# Altium integrated library Linear Technology Power Management Switching Regulator LTC1174-LTC3901.IntLib: 2647 symbols (part 250 of 364)
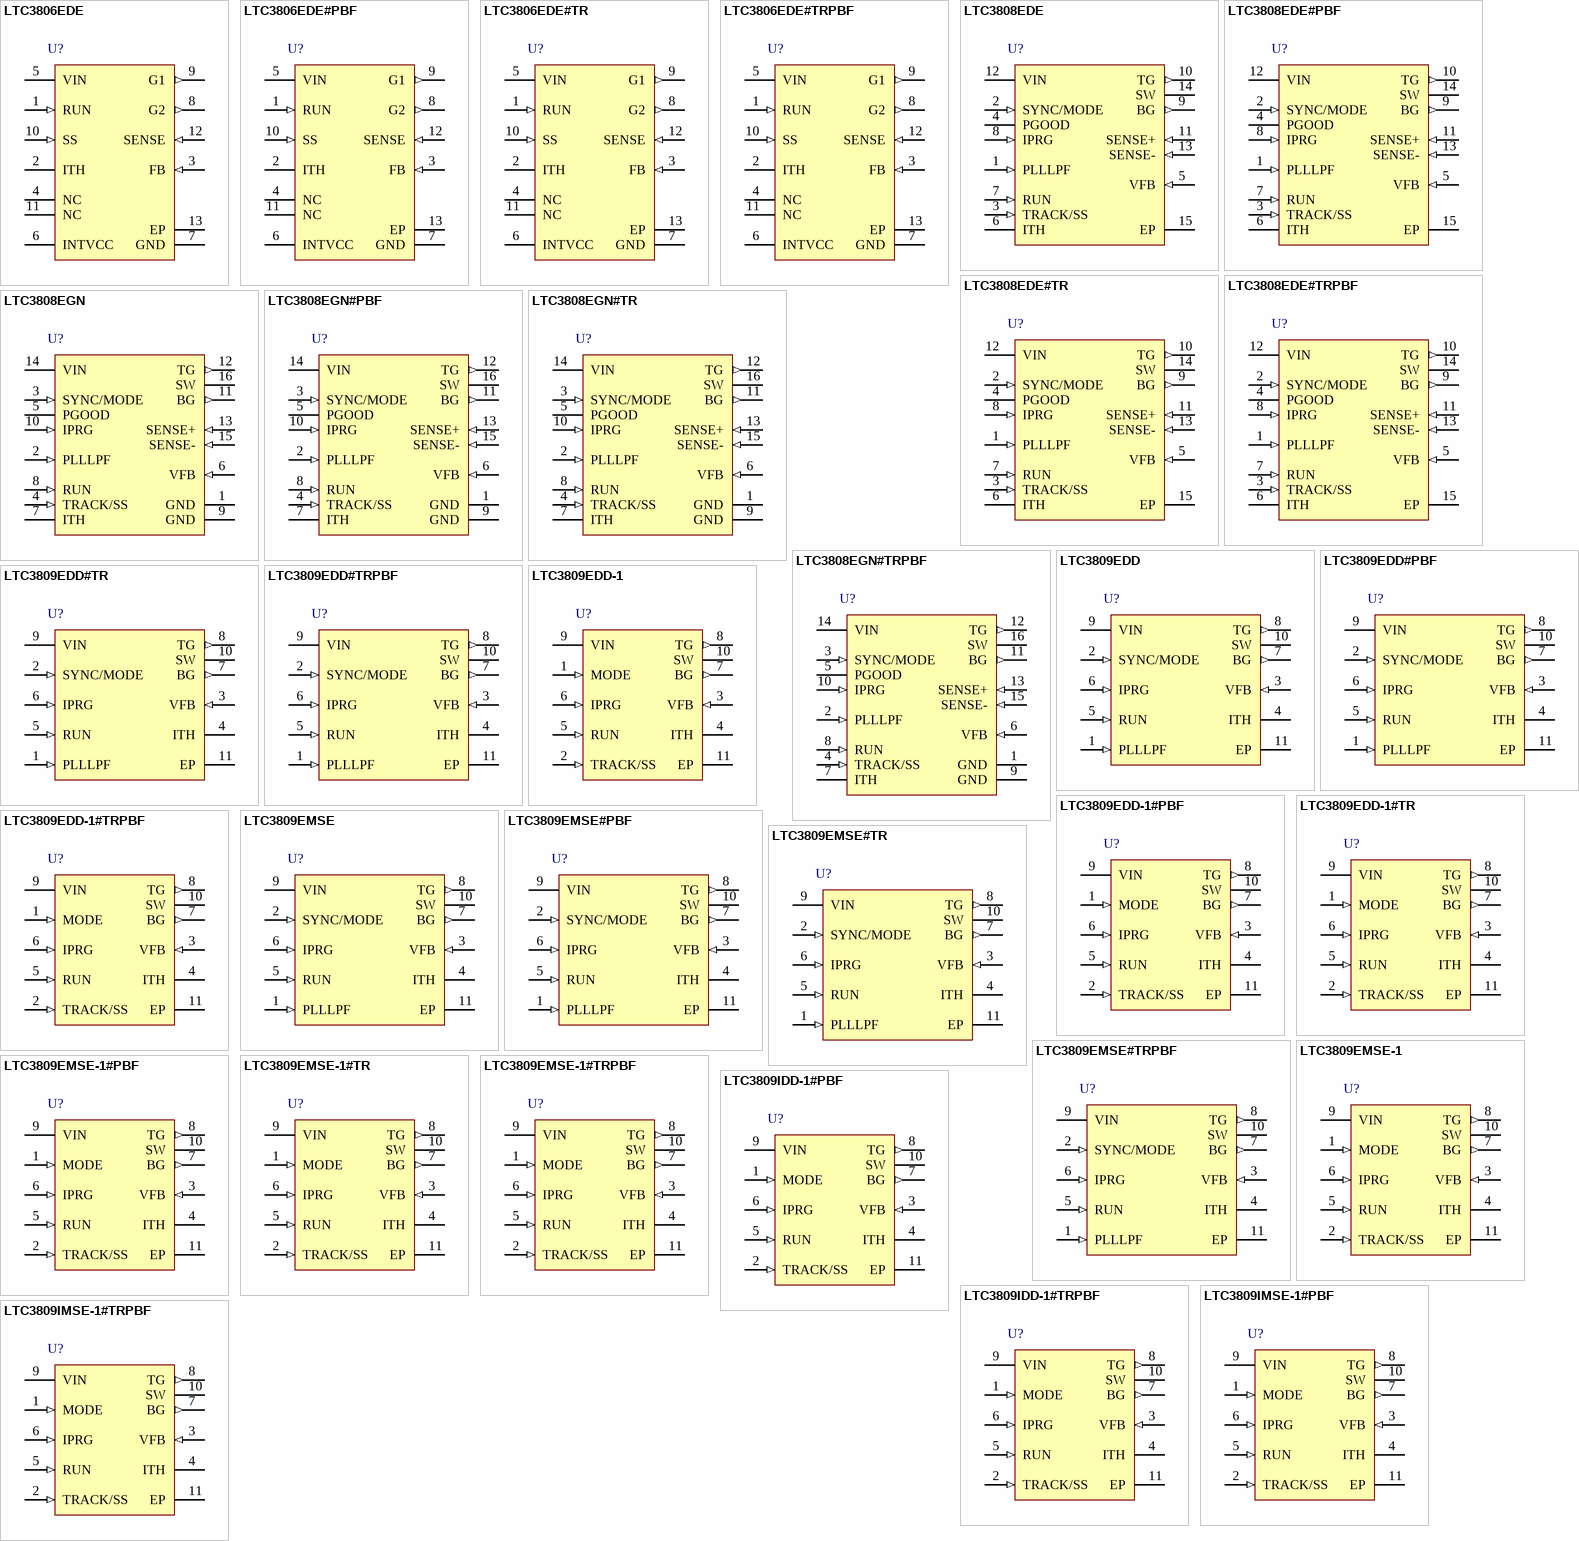
[diagram p244: symbols LTC3806EDE to LTC3809IMSE-1#TRPBF]

## LTC3808EDE#TRPBF
designator U?
No Rsense, Low EMI, Synchronous DC/DC Controller with Output Tracking, 14-pin SON (DE-14), -40 to 85 degC, Pb-Free, Tape and Reel; Manufacturer: Linear Technology; PartNumber: LTC3808EDE#TRPBF; Frequency Sync Range: 250kHz - 750kHz; Number of Outputs: 1; PackageVersion: Rev. B, 06/2010; PackageReference: DE-14; PackageDescription: 14-Pin Plastic DFN, Body 4 x 3 mm, Pitch 0.5 mm; Supplier 1: Digi-Key; Supplier Part Number 1: LTC3808EDE#TRPBF-ND; Packing: Tape and Reel; RoHS: TRUE; Mounting Technology: Surface Mount; Code_JEDEC: MO-229; ComponentLink1Description: Manufacturer URL; ComponentLink1URL: http://www.linear.com/; ComponentLink2Description: Datasheet; ComponentLink2URL: http://cds.linear.com/docs/en/datasheet/3808f.pdf; ComponentLink3Description: Package Specification; ComponentLink3URL: http://www.linear.com/docs/en/packaging/DFN_14_05-08-1708.pdf
footprint LT-DE-14_V (SON, 14-Leads, Body 4x3mm, Pitch 0.5mm, Thermal Pad 3.3x1.7mm)
pins: 1 PLLLPF (in) "Frequency Set/PLL Lowpass Filter. When synchronizing to an external clock, this pin serves as the low pass filter point for the phase-locked loop. Normally, a series RC is connected between this pin and ground.", 2 SYNC/MODE (in) "This pin performs four functions: 1) auxiliary winding feedback input, 2) external clock synchronization input for phase-locked loop, 3) Burst Mode, pulse skipping or forced continuous mode select, and 4) enable spread (See Datasheet)", 3 TRACK/SS (in) "Tracking Input for the Controller or Optional External Soft-Start Input. This pin allows the start-up of VOUT to “track” the external voltage at this pin using an external resistor divider. Tying this pin to VIN all(See Datasheet)", 4 PGOOD (oc) "Power Good Output Voltage Monitor Open-Drain Logic Output. This pin is pulled to ground when the voltage on the feedback pin VFB is not within +/-13.3% of its nominal set point.", 5 VFB (in) "Feedback Pin. This pin receives the remotely sensed feedback voltage for the controller from an external resistor divider across the output.", 6 ITH "Current Threshold and Error Amplifier Compensation Point. Nominal operating range on this pin is from 0.7V to 2V. The voltage on this pin determines the threshold of the main current comparator.", 7 RUN (in) "Run Control Input. Forcing this pin below 1.1V shuts down the chip. Driving this pin to VIN or releasing this pin enables the chip to start-up either by tracking the external voltage at the TRACK/SS pin or with the (See Datasheet)", 8 IPRG (in) "Three-State Pin to Select Maximum Peak Sense Voltage Threshold. This pin selects the maximum allowed voltage drop between the SENSE+ and SENSE- or SW pins (i.e., the maximum allowed drop across the sense resistor or the (See Datasheet)", 9 BG (out) "Bottom (NMOS) Gate Drive Output. This pin drives the gate of the external N-channel MOSFET. This pin has an output swing from GND to SENSE+.", 10 TG (out) "Top (PMOS) Gate Drive Output. This pin drives the gate of the external P-channel MOSFET. This pin has an output swing from GND to SENSE+.", 11 SENSE+ (in) "Positive Input to Differential Current Comparator. Also powers the gate drivers. Normally connected to the source of the external P-channel MOSFET when the sense resistor is not used. Otherwise, it is connected to the sense (See Datasheet)", 12 VIN (power) "Chip Signal Power Supply. This pin powers the entire chip except for the gate drivers. Externally filtering this pin with a lowpass RC network (e.g., R = 10ohm, C = 1uF) is suggested to minimize noise pickup, especially in (See Datasheet)", 13 SENSE- (in) "Negative Input to Differential Current Comparator. Normally is connected to the SW pin when the sense resistor is not used. When using a current sense resistor, connect the resistor between SENSE+ and SENSE- and connect the (See Datasheet)", 14 SW "Switch Node Connection to Inductor. This pin is also an input to the reverse current comparator", 15 EP (power) "The exposed pad (Pin 15 in DFN package) must be soldered to the PCB ground."

## LTC3808EGN
designator U?
No Rsense, Low EMI, Synchronous DC/DC Controller with Output Tracking, 16-pin SOP (GN-16), -40 to 85 degC; Manufacturer: Linear Technology; PartNumber: LTC3808EGN; Frequency Sync Range: 250kHz - 750kHz; Number of Outputs: 1; PackageVersion: Rev. B, 03/2012; PackageReference: GN-16; PackageDescription: 16-Pin Plastic SSOP, Body 4.9 x 3.9 mm, Pitch 0.635 mm; RoHS: FALSE; Mounting Technology: Surface Mount; ComponentLink1Description: Manufacturer URL; ComponentLink1URL: http://www.linear.com/; ComponentLink2Description: Datasheet; ComponentLink2URL: http://cds.linear.com/docs/en/datasheet/3808f.pdf; ComponentLink3Description: Package Specification; ComponentLink3URL: http://cds.linear.com/docs/en/packaging/05081641_B_GN16.pdf
footprint LT-GN-16_N (SOP, 16-Leads, Body 5x4mm, Pitch 0.635mm, IPC Medium Density)
footprint LT-GN-16_L (SOP, 16-Leads, Body 5x4mm, Pitch 0.635mm, IPC High Density)
footprint LT-GN-16_M (SOP, 16-Leads, Body 5x4mm, Pitch 0.635mm, IPC Low Density)
pins: 1 GND (power) "Ground connection for internal circuits, the gate drivers and the negative input to the reverse current comparator.", 2 PLLLPF (in) "Frequency Set/PLL Lowpass Filter. When synchronizing to an external clock, this pin serves as the low pass filter point for the phase-locked loop. Normally, a series RC is connected between this pin and ground.", 3 SYNC/MODE (in) "This pin performs four functions: 1) auxiliary winding feedback input, 2) external clock synchronization input for phase-locked loop, 3) Burst Mode, pulse skipping or forced continuous mode select, and 4) enable spread (See Datasheet)", 4 TRACK/SS (in) "Tracking Input for the Controller or Optional External Soft-Start Input. This pin allows the start-up of VOUT to “track” the external voltage at this pin using an external resistor divider. Tying this pin to VIN all(See Datasheet)", 5 PGOOD (oc) "Power Good Output Voltage Monitor Open-Drain Logic Output. This pin is pulled to ground when the voltage on the feedback pin VFB is not within +/-13.3% of its nominal set point.", 6 VFB (in) "Feedback Pin. This pin receives the remotely sensed feedback voltage for the controller from an external resistor divider across the output.", 7 ITH "Current Threshold and Error Amplifier Compensation Point. Nominal operating range on this pin is from 0.7V to 2V. The voltage on this pin determines the threshold of the main current comparator.", 8 RUN (in) "Run Control Input. Forcing this pin below 1.1V shuts down the chip. Driving this pin to VIN or releasing this pin enables the chip to start-up either by tracking the external voltage at the TRACK/SS pin or with the (See Datasheet)", 9 GND (power) "Ground connection for internal circuits, the gate drivers and the negative input to the reverse current comparator.", 10 IPRG (in) "Three-State Pin to Select Maximum Peak Sense Voltage Threshold. This pin selects the maximum allowed voltage drop between the SENSE+ and SENSE- or SW pins (i.e., the maximum allowed drop across the sense resistor or the (See Datasheet)", 11 BG (out) "Bottom (NMOS) Gate Drive Output. This pin drives the gate of the external N-channel MOSFET. This pin has an output swing from GND to SENSE+.", 12 TG (out) "Top (PMOS) Gate Drive Output. This pin drives the gate of the external P-channel MOSFET. This pin has an output swing from GND to SENSE+.", 13 SENSE+ (in) "Positive Input to Differential Current Comparator. Also powers the gate drivers. Normally connected to the source of the external P-channel MOSFET when the sense resistor is not used. Otherwise, it is connected to the sense (See Datasheet)", 14 VIN (power) "Chip Signal Power Supply. This pin powers the entire chip except for the gate drivers. Externally filtering this pin with a lowpass RC network (e.g., R = 10ohm, C = 1uF) is suggested to minimize noise pickup, especially in (See Datasheet)", 15 SENSE- (in) "Negative Input to Differential Current Comparator. Normally is connected to the SW pin when the sense resistor is not used. When using a current sense resistor, connect the resistor between SENSE+ and SENSE- and connect the (See Datasheet)", 16 SW "Switch Node Connection to Inductor. This pin is also an input to the reverse current comparator"

## LTC3808EGN#PBF
designator U?
No Rsense, Low EMI, Synchronous DC/DC Controller with Output Tracking, 16-pin SOP (GN-16), -40 to 85 degC, Pb-Free; Manufacturer: Linear Technology; PartNumber: LTC3808EGN#PBF; Frequency Sync Range: 250kHz - 750kHz; Number of Outputs: 1; PackageVersion: Rev. B, 03/2012; PackageReference: GN-16; PackageDescription: 16-Pin Plastic SSOP, Body 4.9 x 3.9 mm, Pitch 0.635 mm; Supplier 1: Digi-Key; Supplier Part Number 1: LTC3808EGN#PBF-ND; Supplier 2: Newark; Supplier Part Number 2: 56M8473; RoHS: TRUE; Mounting Technology: Surface Mount; ComponentLink1Description: Manufacturer URL; ComponentLink1URL: http://www.linear.com/; ComponentLink2Description: Datasheet; ComponentLink2URL: http://cds.linear.com/docs/en/datasheet/3808f.pdf; ComponentLink3Description: Package Specification; ComponentLink3URL: http://cds.linear.com/docs/en/packaging/05081641_B_GN16.pdf
footprint LT-GN-16_N (SOP, 16-Leads, Body 5x4mm, Pitch 0.635mm, IPC Medium Density)
footprint LT-GN-16_L (SOP, 16-Leads, Body 5x4mm, Pitch 0.635mm, IPC High Density)
footprint LT-GN-16_M (SOP, 16-Leads, Body 5x4mm, Pitch 0.635mm, IPC Low Density)
pins: 1 GND (power) "Ground connection for internal circuits, the gate drivers and the negative input to the reverse current comparator.", 2 PLLLPF (in) "Frequency Set/PLL Lowpass Filter. When synchronizing to an external clock, this pin serves as the low pass filter point for the phase-locked loop. Normally, a series RC is connected between this pin and ground.", 3 SYNC/MODE (in) "This pin performs four functions: 1) auxiliary winding feedback input, 2) external clock synchronization input for phase-locked loop, 3) Burst Mode, pulse skipping or forced continuous mode select, and 4) enable spread (See Datasheet)", 4 TRACK/SS (in) "Tracking Input for the Controller or Optional External Soft-Start Input. This pin allows the start-up of VOUT to “track” the external voltage at this pin using an external resistor divider. Tying this pin to VIN all(See Datasheet)", 5 PGOOD (oc) "Power Good Output Voltage Monitor Open-Drain Logic Output. This pin is pulled to ground when the voltage on the feedback pin VFB is not within +/-13.3% of its nominal set point.", 6 VFB (in) "Feedback Pin. This pin receives the remotely sensed feedback voltage for the controller from an external resistor divider across the output.", 7 ITH "Current Threshold and Error Amplifier Compensation Point. Nominal operating range on this pin is from 0.7V to 2V. The voltage on this pin determines the threshold of the main current comparator.", 8 RUN (in) "Run Control Input. Forcing this pin below 1.1V shuts down the chip. Driving this pin to VIN or releasing this pin enables the chip to start-up either by tracking the external voltage at the TRACK/SS pin or with the (See Datasheet)", 9 GND (power) "Ground connection for internal circuits, the gate drivers and the negative input to the reverse current comparator.", 10 IPRG (in) "Three-State Pin to Select Maximum Peak Sense Voltage Threshold. This pin selects the maximum allowed voltage drop between the SENSE+ and SENSE- or SW pins (i.e., the maximum allowed drop across the sense resistor or the (See Datasheet)", 11 BG (out) "Bottom (NMOS) Gate Drive Output. This pin drives the gate of the external N-channel MOSFET. This pin has an output swing from GND to SENSE+.", 12 TG (out) "Top (PMOS) Gate Drive Output. This pin drives the gate of the external P-channel MOSFET. This pin has an output swing from GND to SENSE+.", 13 SENSE+ (in) "Positive Input to Differential Current Comparator. Also powers the gate drivers. Normally connected to the source of the external P-channel MOSFET when the sense resistor is not used. Otherwise, it is connected to the sense (See Datasheet)", 14 VIN (power) "Chip Signal Power Supply. This pin powers the entire chip except for the gate drivers. Externally filtering this pin with a lowpass RC network (e.g., R = 10ohm, C = 1uF) is suggested to minimize noise pickup, especially in (See Datasheet)", 15 SENSE- (in) "Negative Input to Differential Current Comparator. Normally is connected to the SW pin when the sense resistor is not used. When using a current sense resistor, connect the resistor between SENSE+ and SENSE- and connect the (See Datasheet)", 16 SW "Switch Node Connection to Inductor. This pin is also an input to the reverse current comparator"

## LTC3808EGN#TR
designator U?
No Rsense, Low EMI, Synchronous DC/DC Controller with Output Tracking, 16-pin SOP (GN-16), -40 to 85 degC, Tape and Reel; Manufacturer: Linear Technology; PartNumber: LTC3808EGN#TR; Frequency Sync Range: 250kHz - 750kHz; Number of Outputs: 1; PackageVersion: Rev. B, 03/2012; PackageReference: GN-16; PackageDescription: 16-Pin Plastic SSOP, Body 4.9 x 3.9 mm, Pitch 0.635 mm; Packing: Tape and Reel; RoHS: FALSE; Mounting Technology: Surface Mount; ComponentLink1Description: Manufacturer URL; ComponentLink1URL: http://www.linear.com/; ComponentLink2Description: Datasheet; ComponentLink2URL: http://cds.linear.com/docs/en/datasheet/3808f.pdf; ComponentLink3Description: Package Specification; ComponentLink3URL: http://cds.linear.com/docs/en/packaging/05081641_B_GN16.pdf
footprint LT-GN-16_N (SOP, 16-Leads, Body 5x4mm, Pitch 0.635mm, IPC Medium Density)
footprint LT-GN-16_L (SOP, 16-Leads, Body 5x4mm, Pitch 0.635mm, IPC High Density)
footprint LT-GN-16_M (SOP, 16-Leads, Body 5x4mm, Pitch 0.635mm, IPC Low Density)
pins: 1 GND (power) "Ground connection for internal circuits, the gate drivers and the negative input to the reverse current comparator.", 2 PLLLPF (in) "Frequency Set/PLL Lowpass Filter. When synchronizing to an external clock, this pin serves as the low pass filter point for the phase-locked loop. Normally, a series RC is connected between this pin and ground.", 3 SYNC/MODE (in) "This pin performs four functions: 1) auxiliary winding feedback input, 2) external clock synchronization input for phase-locked loop, 3) Burst Mode, pulse skipping or forced continuous mode select, and 4) enable spread (See Datasheet)", 4 TRACK/SS (in) "Tracking Input for the Controller or Optional External Soft-Start Input. This pin allows the start-up of VOUT to “track” the external voltage at this pin using an external resistor divider. Tying this pin to VIN all(See Datasheet)", 5 PGOOD (oc) "Power Good Output Voltage Monitor Open-Drain Logic Output. This pin is pulled to ground when the voltage on the feedback pin VFB is not within +/-13.3% of its nominal set point.", 6 VFB (in) "Feedback Pin. This pin receives the remotely sensed feedback voltage for the controller from an external resistor divider across the output.", 7 ITH "Current Threshold and Error Amplifier Compensation Point. Nominal operating range on this pin is from 0.7V to 2V. The voltage on this pin determines the threshold of the main current comparator.", 8 RUN (in) "Run Control Input. Forcing this pin below 1.1V shuts down the chip. Driving this pin to VIN or releasing this pin enables the chip to start-up either by tracking the external voltage at the TRACK/SS pin or with the (See Datasheet)", 9 GND (power) "Ground connection for internal circuits, the gate drivers and the negative input to the reverse current comparator.", 10 IPRG (in) "Three-State Pin to Select Maximum Peak Sense Voltage Threshold. This pin selects the maximum allowed voltage drop between the SENSE+ and SENSE- or SW pins (i.e., the maximum allowed drop across the sense resistor or the (See Datasheet)", 11 BG (out) "Bottom (NMOS) Gate Drive Output. This pin drives the gate of the external N-channel MOSFET. This pin has an output swing from GND to SENSE+.", 12 TG (out) "Top (PMOS) Gate Drive Output. This pin drives the gate of the external P-channel MOSFET. This pin has an output swing from GND to SENSE+.", 13 SENSE+ (in) "Positive Input to Differential Current Comparator. Also powers the gate drivers. Normally connected to the source of the external P-channel MOSFET when the sense resistor is not used. Otherwise, it is connected to the sense (See Datasheet)", 14 VIN (power) "Chip Signal Power Supply. This pin powers the entire chip except for the gate drivers. Externally filtering this pin with a lowpass RC network (e.g., R = 10ohm, C = 1uF) is suggested to minimize noise pickup, especially in (See Datasheet)", 15 SENSE- (in) "Negative Input to Differential Current Comparator. Normally is connected to the SW pin when the sense resistor is not used. When using a current sense resistor, connect the resistor between SENSE+ and SENSE- and connect the (See Datasheet)", 16 SW "Switch Node Connection to Inductor. This pin is also an input to the reverse current comparator"

## LTC3808EGN#TRPBF
designator U?
No Rsense, Low EMI, Synchronous DC/DC Controller with Output Tracking, 16-pin SOP (GN-16), -40 to 85 degC, Pb-Free, Tape and Reel; Manufacturer: Linear Technology; PartNumber: LTC3808EGN#TRPBF; Frequency Sync Range: 250kHz - 750kHz; Number of Outputs: 1; PackageVersion: Rev. B, 03/2012; PackageReference: GN-16; PackageDescription: 16-Pin Plastic SSOP, Body 4.9 x 3.9 mm, Pitch 0.635 mm; Supplier 1: Digi-Key; Supplier Part Number 1: LTC3808EGN#TRPBF-ND; Packing: Tape and Reel; RoHS: TRUE; Mounting Technology: Surface Mount; ComponentLink1Description: Manufacturer URL; ComponentLink1URL: http://www.linear.com/; ComponentLink2Description: Datasheet; ComponentLink2URL: http://cds.linear.com/docs/en/datasheet/3808f.pdf; ComponentLink3Description: Package Specification; ComponentLink3URL: http://cds.linear.com/docs/en/packaging/05081641_B_GN16.pdf
footprint LT-GN-16_N (SOP, 16-Leads, Body 5x4mm, Pitch 0.635mm, IPC Medium Density)
footprint LT-GN-16_L (SOP, 16-Leads, Body 5x4mm, Pitch 0.635mm, IPC High Density)
footprint LT-GN-16_M (SOP, 16-Leads, Body 5x4mm, Pitch 0.635mm, IPC Low Density)
pins: 1 GND (power) "Ground connection for internal circuits, the gate drivers and the negative input to the reverse current comparator.", 2 PLLLPF (in) "Frequency Set/PLL Lowpass Filter. When synchronizing to an external clock, this pin serves as the low pass filter point for the phase-locked loop. Normally, a series RC is connected between this pin and ground.", 3 SYNC/MODE (in) "This pin performs four functions: 1) auxiliary winding feedback input, 2) external clock synchronization input for phase-locked loop, 3) Burst Mode, pulse skipping or forced continuous mode select, and 4) enable spread (See Datasheet)", 4 TRACK/SS (in) "Tracking Input for the Controller or Optional External Soft-Start Input. This pin allows the start-up of VOUT to “track” the external voltage at this pin using an external resistor divider. Tying this pin to VIN all(See Datasheet)", 5 PGOOD (oc) "Power Good Output Voltage Monitor Open-Drain Logic Output. This pin is pulled to ground when the voltage on the feedback pin VFB is not within +/-13.3% of its nominal set point.", 6 VFB (in) "Feedback Pin. This pin receives the remotely sensed feedback voltage for the controller from an external resistor divider across the output.", 7 ITH "Current Threshold and Error Amplifier Compensation Point. Nominal operating range on this pin is from 0.7V to 2V. The voltage on this pin determines the threshold of the main current comparator.", 8 RUN (in) "Run Control Input. Forcing this pin below 1.1V shuts down the chip. Driving this pin to VIN or releasing this pin enables the chip to start-up either by tracking the external voltage at the TRACK/SS pin or with the (See Datasheet)", 9 GND (power) "Ground connection for internal circuits, the gate drivers and the negative input to the reverse current comparator.", 10 IPRG (in) "Three-State Pin to Select Maximum Peak Sense Voltage Threshold. This pin selects the maximum allowed voltage drop between the SENSE+ and SENSE- or SW pins (i.e., the maximum allowed drop across the sense resistor or the (See Datasheet)", 11 BG (out) "Bottom (NMOS) Gate Drive Output. This pin drives the gate of the external N-channel MOSFET. This pin has an output swing from GND to SENSE+.", 12 TG (out) "Top (PMOS) Gate Drive Output. This pin drives the gate of the external P-channel MOSFET. This pin has an output swing from GND to SENSE+.", 13 SENSE+ (in) "Positive Input to Differential Current Comparator. Also powers the gate drivers. Normally connected to the source of the external P-channel MOSFET when the sense resistor is not used. Otherwise, it is connected to the sense (See Datasheet)", 14 VIN (power) "Chip Signal Power Supply. This pin powers the entire chip except for the gate drivers. Externally filtering this pin with a lowpass RC network (e.g., R = 10ohm, C = 1uF) is suggested to minimize noise pickup, especially in (See Datasheet)", 15 SENSE- (in) "Negative Input to Differential Current Comparator. Normally is connected to the SW pin when the sense resistor is not used. When using a current sense resistor, connect the resistor between SENSE+ and SENSE- and connect the (See Datasheet)", 16 SW "Switch Node Connection to Inductor. This pin is also an input to the reverse current comparator"

## LTC3809EDD
designator U?
No Rsense, Low EMI, Synchronous DC/DC Controller, 10-pin SON (DD-10), -40 to 85 degC; Manufacturer: Linear Technology; PartNumber: LTC3809EDD; Frequency Sync Range: 250kHz - 750kHz; Number of Outputs: 1; DatasheetVersion: Rev. C; PackageVersion: Rev. C, 06/2010; PackageReference: DD-10; PackageDescription: 10-Pin Plastic DFN, Body 3 x 3 mm, Pitch 0.5 mm; Supplier 1: Digi-Key; Supplier Part Number 1: LTC3809EDD-ND; RoHS: FALSE; Mounting Technology: Surface Mount; Code_JEDEC: MO-229; ComponentLink1Description: Manufacturer URL; ComponentLink1URL: http://www.linear.com/; ComponentLink2Description: Datasheet; ComponentLink2URL: http://cds.linear.com/docs/en/datasheet/3809fc.pdf; ComponentLink3Description: Package Specification; ComponentLink3URL: http://cds.linear.com/docs/en/packaging/DFN_10_05-08-1699.pdf
footprint LT-DD-10_V (SON, 10-Leads, Body 3x3mm, Pitch 0.5mm, Thermal Pad 2.38x1.65mm)
pins: 1 PLLLPF (in) "Frequency Set/PLL Lowpass Filter. When synchronizing to an external clock, this pin serves as the lowpass filter point for the phase-locked loop. Normally, a series RC is connected between this pin and ground. When not (See Datasheet)", 2 SYNC/MODE (in), 3 VFB (in) "Feedback Pin. This pin receives the remotely sensed feedback voltage for the controller from an external resistor divider across the output.", 4 ITH "Current Threshold and Error Amplifier Compensation Point. Nominal operating range on this pin is from 0.7V to 2V. The voltage on this pin determines the threshold of the main current comparator.", 5 RUN (in) "Run Control Input. Forcing this pin below 1.1V shuts down the chip. Driving this pin to VIN or releasing this pin enables the chip to start-up with the internal soft-start.", 6 IPRG (in) "Three-State Pin to Select Maximum Peak Sense Voltage Threshold. This pin selects the maximum allowed voltage drop between the VIN and SW pins (i.e., the maximum allowed drop across the external P-channel MOSFET). Tie to VIN, (See Datasheet)", 7 BG (out) "Bottom (NMOS) Gate Drive Output. This pin drives the gate of the external N-channel MOSFET. This pin has an output swing from PGND to VIN.", 8 TG (out) "Top (PMOS) Gate Drive Output. This pin drives the gate of the external P-channel MOSFET. This pin has an output swing from PGND to VIN.", 9 VIN (power) "Chip Signal Power Supply. This pin powers the entire chip, the gate drivers and serves as the positive input to the differential current comparator.", 10 SW "Switch Node Connection to Inductor. This pin is also the negative input to the differential current comparator and an input to the reverse current comparator. Normally this pin is connected to the drain of the external (See Datasheet)", 11 EP (power) "Exposed Pad. The Exposed Pad is ground and must be soldered to the PCB ground for electrical contact and optimum thermal performance."

## LTC3809EDD#PBF
designator U?
No Rsense, Low EMI, Synchronous DC/DC Controller, 10-pin SON (DD-10), -40 to 85 degC, Pb-Free; Manufacturer: Linear Technology; PartNumber: LTC3809EDD#PBF; Frequency Sync Range: 250kHz - 750kHz; Number of Outputs: 1; DatasheetVersion: Rev. C; PackageVersion: Rev. C, 06/2010; PackageReference: DD-10; PackageDescription: 10-Pin Plastic DFN, Body 3 x 3 mm, Pitch 0.5 mm; Supplier 1: Digi-Key; Supplier Part Number 1: LTC3809EDD#PBF-ND; Supplier 2: Farnell; Supplier Part Number 2: 2295152; Supplier 3: Newark; Supplier Part Number 3: 56M8481; RoHS: TRUE; Mounting Technology: Surface Mount; Code_JEDEC: MO-229; ComponentLink1Description: Manufacturer URL; ComponentLink1URL: http://www.linear.com/; ComponentLink2Description: Datasheet; ComponentLink2URL: http://cds.linear.com/docs/en/datasheet/3809fc.pdf; ComponentLink3Description: Package Specification; ComponentLink3URL: http://cds.linear.com/docs/en/packaging/DFN_10_05-08-1699.pdf
footprint LT-DD-10_V (SON, 10-Leads, Body 3x3mm, Pitch 0.5mm, Thermal Pad 2.38x1.65mm)
pins: 1 PLLLPF (in) "Frequency Set/PLL Lowpass Filter. When synchronizing to an external clock, this pin serves as the lowpass filter point for the phase-locked loop. Normally, a series RC is connected between this pin and ground. When not (See Datasheet)", 2 SYNC/MODE (in), 3 VFB (in) "Feedback Pin. This pin receives the remotely sensed feedback voltage for the controller from an external resistor divider across the output.", 4 ITH "Current Threshold and Error Amplifier Compensation Point. Nominal operating range on this pin is from 0.7V to 2V. The voltage on this pin determines the threshold of the main current comparator.", 5 RUN (in) "Run Control Input. Forcing this pin below 1.1V shuts down the chip. Driving this pin to VIN or releasing this pin enables the chip to start-up with the internal soft-start.", 6 IPRG (in) "Three-State Pin to Select Maximum Peak Sense Voltage Threshold. This pin selects the maximum allowed voltage drop between the VIN and SW pins (i.e., the maximum allowed drop across the external P-channel MOSFET). Tie to VIN, (See Datasheet)", 7 BG (out) "Bottom (NMOS) Gate Drive Output. This pin drives the gate of the external N-channel MOSFET. This pin has an output swing from PGND to VIN.", 8 TG (out) "Top (PMOS) Gate Drive Output. This pin drives the gate of the external P-channel MOSFET. This pin has an output swing from PGND to VIN.", 9 VIN (power) "Chip Signal Power Supply. This pin powers the entire chip, the gate drivers and serves as the positive input to the differential current comparator.", 10 SW "Switch Node Connection to Inductor. This pin is also the negative input to the differential current comparator and an input to the reverse current comparator. Normally this pin is connected to the drain of the external (See Datasheet)", 11 EP (power) "Exposed Pad. The Exposed Pad is ground and must be soldered to the PCB ground for electrical contact and optimum thermal performance."

## LTC3809EDD#TR
designator U?
No Rsense, Low EMI, Synchronous DC/DC Controller, 10-pin SON (DD-10), -40 to 85 degC, Tape and Reel; Manufacturer: Linear Technology; PartNumber: LTC3809EDD#TR; Frequency Sync Range: 250kHz - 750kHz; Number of Outputs: 1; DatasheetVersion: Rev. C; PackageVersion: Rev. C, 06/2010; PackageReference: DD-10; PackageDescription: 10-Pin Plastic DFN, Body 3 x 3 mm, Pitch 0.5 mm; Supplier 1: Digi-Key; Supplier Part Number 1: LTC3809EDD#TR-ND; Packing: Tape and Reel; RoHS: FALSE; Mounting Technology: Surface Mount; Code_JEDEC: MO-229; ComponentLink1Description: Manufacturer URL; ComponentLink1URL: http://www.linear.com/; ComponentLink2Description: Datasheet; ComponentLink2URL: http://cds.linear.com/docs/en/datasheet/3809fc.pdf; ComponentLink3Description: Package Specification; ComponentLink3URL: http://cds.linear.com/docs/en/packaging/DFN_10_05-08-1699.pdf
footprint LT-DD-10_V (SON, 10-Leads, Body 3x3mm, Pitch 0.5mm, Thermal Pad 2.38x1.65mm)
pins: 1 PLLLPF (in) "Frequency Set/PLL Lowpass Filter. When synchronizing to an external clock, this pin serves as the lowpass filter point for the phase-locked loop. Normally, a series RC is connected between this pin and ground. When not (See Datasheet)", 2 SYNC/MODE (in), 3 VFB (in) "Feedback Pin. This pin receives the remotely sensed feedback voltage for the controller from an external resistor divider across the output.", 4 ITH "Current Threshold and Error Amplifier Compensation Point. Nominal operating range on this pin is from 0.7V to 2V. The voltage on this pin determines the threshold of the main current comparator.", 5 RUN (in) "Run Control Input. Forcing this pin below 1.1V shuts down the chip. Driving this pin to VIN or releasing this pin enables the chip to start-up with the internal soft-start.", 6 IPRG (in) "Three-State Pin to Select Maximum Peak Sense Voltage Threshold. This pin selects the maximum allowed voltage drop between the VIN and SW pins (i.e., the maximum allowed drop across the external P-channel MOSFET). Tie to VIN, (See Datasheet)", 7 BG (out) "Bottom (NMOS) Gate Drive Output. This pin drives the gate of the external N-channel MOSFET. This pin has an output swing from PGND to VIN.", 8 TG (out) "Top (PMOS) Gate Drive Output. This pin drives the gate of the external P-channel MOSFET. This pin has an output swing from PGND to VIN.", 9 VIN (power) "Chip Signal Power Supply. This pin powers the entire chip, the gate drivers and serves as the positive input to the differential current comparator.", 10 SW "Switch Node Connection to Inductor. This pin is also the negative input to the differential current comparator and an input to the reverse current comparator. Normally this pin is connected to the drain of the external (See Datasheet)", 11 EP (power) "Exposed Pad. The Exposed Pad is ground and must be soldered to the PCB ground for electrical contact and optimum thermal performance."

## LTC3809EDD#TRPBF
designator U?
No Rsense, Low EMI, Synchronous DC/DC Controller, 10-pin SON (DD-10), -40 to 85 degC, Pb-Free, Tape and Reel; Manufacturer: Linear Technology; PartNumber: LTC3809EDD#TRPBF; Frequency Sync Range: 250kHz - 750kHz; Number of Outputs: 1; DatasheetVersion: Rev. C; PackageVersion: Rev. C, 06/2010; PackageReference: DD-10; PackageDescription: 10-Pin Plastic DFN, Body 3 x 3 mm, Pitch 0.5 mm; Supplier 1: Digi-Key; Supplier Part Number 1: LTC3809EDD#TRPBF-ND; Packing: Tape and Reel; RoHS: TRUE; Mounting Technology: Surface Mount; Code_JEDEC: MO-229; ComponentLink1Description: Manufacturer URL; ComponentLink1URL: http://www.linear.com/; ComponentLink2Description: Datasheet; ComponentLink2URL: http://cds.linear.com/docs/en/datasheet/3809fc.pdf; ComponentLink3Description: Package Specification; ComponentLink3URL: http://cds.linear.com/docs/en/packaging/DFN_10_05-08-1699.pdf
footprint LT-DD-10_V (SON, 10-Leads, Body 3x3mm, Pitch 0.5mm, Thermal Pad 2.38x1.65mm)
pins: 1 PLLLPF (in) "Frequency Set/PLL Lowpass Filter. When synchronizing to an external clock, this pin serves as the lowpass filter point for the phase-locked loop. Normally, a series RC is connected between this pin and ground. When not (See Datasheet)", 2 SYNC/MODE (in), 3 VFB (in) "Feedback Pin. This pin receives the remotely sensed feedback voltage for the controller from an external resistor divider across the output.", 4 ITH "Current Threshold and Error Amplifier Compensation Point. Nominal operating range on this pin is from 0.7V to 2V. The voltage on this pin determines the threshold of the main current comparator.", 5 RUN (in) "Run Control Input. Forcing this pin below 1.1V shuts down the chip. Driving this pin to VIN or releasing this pin enables the chip to start-up with the internal soft-start.", 6 IPRG (in) "Three-State Pin to Select Maximum Peak Sense Voltage Threshold. This pin selects the maximum allowed voltage drop between the VIN and SW pins (i.e., the maximum allowed drop across the external P-channel MOSFET). Tie to VIN, (See Datasheet)", 7 BG (out) "Bottom (NMOS) Gate Drive Output. This pin drives the gate of the external N-channel MOSFET. This pin has an output swing from PGND to VIN.", 8 TG (out) "Top (PMOS) Gate Drive Output. This pin drives the gate of the external P-channel MOSFET. This pin has an output swing from PGND to VIN.", 9 VIN (power) "Chip Signal Power Supply. This pin powers the entire chip, the gate drivers and serves as the positive input to the differential current comparator.", 10 SW "Switch Node Connection to Inductor. This pin is also the negative input to the differential current comparator and an input to the reverse current comparator. Normally this pin is connected to the drain of the external (See Datasheet)", 11 EP (power) "Exposed Pad. The Exposed Pad is ground and must be soldered to the PCB ground for electrical contact and optimum thermal performance."

## LTC3809EDD-1
designator U?
No Rsense, Low Input Voltage, Synchronous DC/DC Controller with Output Tracking, 10-pin SON (DD-10), -40 to 85 degC; Manufacturer: Linear Technology; PartNumber: LTC3809EDD-1; Number of Outputs: 1; DatasheetVersion: Rev. C; PackageVersion: Rev. C, 06/2010; PackageReference: DD-10; PackageDescription: 10-Pin Plastic DFN, Body 3 x 3 mm, Pitch 0.5 mm; Supplier 1: Digi-Key; Supplier Part Number 1: LTC3809EDD-1-ND; RoHS: FALSE; Mounting Technology: Surface Mount; Code_JEDEC: MO-229; ComponentLink1Description: Manufacturer URL; ComponentLink1URL: http://www.linear.com/; ComponentLink2Description: Datasheet; ComponentLink2URL: http://cds.linear.com/docs/en/datasheet/38091fc.pdf; ComponentLink3Description: Package Specification; ComponentLink3URL: http://cds.linear.com/docs/en/packaging/DFN_10_05-08-1699.pdf
footprint LT-DD-10_V (SON, 10-Leads, Body 3x3mm, Pitch 0.5mm, Thermal Pad 2.38x1.65mm)
pins: 1 MODE (in) "This pin performs two functions: 1) auxiliary winding feedback input, and 2) Burst Mode operation, pulse skipping or forced continuous mode select. To select Burst Mode operation at light loads, tie this pin to VIN. (See Datasheet)", 2 TRACK/SS (in) "Tracking Input for the Controller or Optional External Soft-Start Input. This pin allows the start-up of VOUT to “track” the external voltage at this pin using an external resistor divider. Tying this pin to VIN all(See Datasheet)", 3 VFB (in) "Feedback Pin. This pin receives the remotely sensed feedback voltage for the controller from an external resistor divider across the output.", 4 ITH "Current Threshold and Error Amplifier Compensation Point. Nominal operating range on this pin is from 0.7V to 2V. The voltage on this pin determines the threshold of the main current comparator.", 5 RUN (in) "Run Control Input. Forcing this pin below 1.1V shuts down the chip. Driving this pin to VIN or releasing this pin enables the chip to start-up with the internal soft-start.", 6 IPRG (in) "Three-State Pin to Select Maximum Peak Sense Voltage Threshold. This pin selects the maximum allowed voltage drop between the VIN and SW pins (i.e., the maximum allowed drop across the external P-channel MOSFET). Tie to VIN, (See Datasheet)", 7 BG (out) "Bottom (NMOS) Gate Drive Output. This pin drives the gate of the external N-channel MOSFET. This pin has an output swing from PGND to VIN.", 8 TG (out) "Top (PMOS) Gate Drive Output. This pin drives the gate of the external P-channel MOSFET. This pin has an output swing from PGND to VIN.", 9 VIN (power) "Chip Signal Power Supply. This pin powers the entire chip, the gate drivers and serves as the positive input to the differential current comparator.", 10 SW "Switch Node Connection to Inductor. This pin is also the negative input to the differential current comparator and an input to the reverse current comparator. Normally this pin is connected to the drain of the external (See Datasheet)", 11 EP (power) "Ground connection for internal circuits, the gate drivers and the negative input to the reverse current comparator. The Exposed Pad must be soldered to the PCB ground."

## LTC3809EDD-1#PBF
designator U?
No Rsense, Low Input Voltage, Synchronous DC/DC Controller with Output Tracking, 10-pin SON (DD-10), -40 to 85 degC, Pb-Free; Manufacturer: Linear Technology; PartNumber: LTC3809EDD-1#PBF; Number of Outputs: 1; DatasheetVersion: Rev. C; PackageVersion: Rev. C, 06/2010; PackageReference: DD-10; PackageDescription: 10-Pin Plastic DFN, Body 3 x 3 mm, Pitch 0.5 mm; Supplier 1: Digi-Key; Supplier Part Number 1: LTC3809EDD-1#PBF-ND; Supplier 2: Farnell; Supplier Part Number 2: 1663723; Supplier 3: Newark; Supplier Part Number 3: 56M8478; RoHS: TRUE; Mounting Technology: Surface Mount; Code_JEDEC: MO-229; ComponentLink1Description: Manufacturer URL; ComponentLink1URL: http://www.linear.com/; ComponentLink2Description: Datasheet; ComponentLink2URL: http://cds.linear.com/docs/en/datasheet/38091fc.pdf; ComponentLink3Description: Package Specification; ComponentLink3URL: http://cds.linear.com/docs/en/packaging/DFN_10_05-08-1699.pdf
footprint LT-DD-10_V (SON, 10-Leads, Body 3x3mm, Pitch 0.5mm, Thermal Pad 2.38x1.65mm)
pins: 1 MODE (in) "This pin performs two functions: 1) auxiliary winding feedback input, and 2) Burst Mode operation, pulse skipping or forced continuous mode select. To select Burst Mode operation at light loads, tie this pin to VIN. (See Datasheet)", 2 TRACK/SS (in) "Tracking Input for the Controller or Optional External Soft-Start Input. This pin allows the start-up of VOUT to “track” the external voltage at this pin using an external resistor divider. Tying this pin to VIN all(See Datasheet)", 3 VFB (in) "Feedback Pin. This pin receives the remotely sensed feedback voltage for the controller from an external resistor divider across the output.", 4 ITH "Current Threshold and Error Amplifier Compensation Point. Nominal operating range on this pin is from 0.7V to 2V. The voltage on this pin determines the threshold of the main current comparator.", 5 RUN (in) "Run Control Input. Forcing this pin below 1.1V shuts down the chip. Driving this pin to VIN or releasing this pin enables the chip to start-up with the internal soft-start.", 6 IPRG (in) "Three-State Pin to Select Maximum Peak Sense Voltage Threshold. This pin selects the maximum allowed voltage drop between the VIN and SW pins (i.e., the maximum allowed drop across the external P-channel MOSFET). Tie to VIN, (See Datasheet)", 7 BG (out) "Bottom (NMOS) Gate Drive Output. This pin drives the gate of the external N-channel MOSFET. This pin has an output swing from PGND to VIN.", 8 TG (out) "Top (PMOS) Gate Drive Output. This pin drives the gate of the external P-channel MOSFET. This pin has an output swing from PGND to VIN.", 9 VIN (power) "Chip Signal Power Supply. This pin powers the entire chip, the gate drivers and serves as the positive input to the differential current comparator.", 10 SW "Switch Node Connection to Inductor. This pin is also the negative input to the differential current comparator and an input to the reverse current comparator. Normally this pin is connected to the drain of the external (See Datasheet)", 11 EP (power) "Ground connection for internal circuits, the gate drivers and the negative input to the reverse current comparator. The Exposed Pad must be soldered to the PCB ground."

## LTC3809EDD-1#TR
designator U?
No Rsense, Low Input Voltage, Synchronous DC/DC Controller with Output Tracking, 10-pin SON (DD-10), -40 to 85 degC, Tape and Reel; Manufacturer: Linear Technology; PartNumber: LTC3809EDD-1#TR; Number of Outputs: 1; DatasheetVersion: Rev. C; PackageVersion: Rev. C, 06/2010; PackageReference: DD-10; PackageDescription: 10-Pin Plastic DFN, Body 3 x 3 mm, Pitch 0.5 mm; Supplier 1: Digi-Key; Supplier Part Number 1: LTC3809EDD-1#TR-ND; Packing: Tape and Reel; RoHS: FALSE; Mounting Technology: Surface Mount; Code_JEDEC: MO-229; ComponentLink1Description: Manufacturer URL; ComponentLink1URL: http://www.linear.com/; ComponentLink2Description: Datasheet; ComponentLink2URL: http://cds.linear.com/docs/en/datasheet/38091fc.pdf; ComponentLink3Description: Package Specification; ComponentLink3URL: http://cds.linear.com/docs/en/packaging/DFN_10_05-08-1699.pdf
footprint LT-DD-10_V (SON, 10-Leads, Body 3x3mm, Pitch 0.5mm, Thermal Pad 2.38x1.65mm)
pins: 1 MODE (in) "This pin performs two functions: 1) auxiliary winding feedback input, and 2) Burst Mode operation, pulse skipping or forced continuous mode select. To select Burst Mode operation at light loads, tie this pin to VIN. (See Datasheet)", 2 TRACK/SS (in) "Tracking Input for the Controller or Optional External Soft-Start Input. This pin allows the start-up of VOUT to “track” the external voltage at this pin using an external resistor divider. Tying this pin to VIN all(See Datasheet)", 3 VFB (in) "Feedback Pin. This pin receives the remotely sensed feedback voltage for the controller from an external resistor divider across the output.", 4 ITH "Current Threshold and Error Amplifier Compensation Point. Nominal operating range on this pin is from 0.7V to 2V. The voltage on this pin determines the threshold of the main current comparator.", 5 RUN (in) "Run Control Input. Forcing this pin below 1.1V shuts down the chip. Driving this pin to VIN or releasing this pin enables the chip to start-up with the internal soft-start.", 6 IPRG (in) "Three-State Pin to Select Maximum Peak Sense Voltage Threshold. This pin selects the maximum allowed voltage drop between the VIN and SW pins (i.e., the maximum allowed drop across the external P-channel MOSFET). Tie to VIN, (See Datasheet)", 7 BG (out) "Bottom (NMOS) Gate Drive Output. This pin drives the gate of the external N-channel MOSFET. This pin has an output swing from PGND to VIN.", 8 TG (out) "Top (PMOS) Gate Drive Output. This pin drives the gate of the external P-channel MOSFET. This pin has an output swing from PGND to VIN.", 9 VIN (power) "Chip Signal Power Supply. This pin powers the entire chip, the gate drivers and serves as the positive input to the differential current comparator.", 10 SW "Switch Node Connection to Inductor. This pin is also the negative input to the differential current comparator and an input to the reverse current comparator. Normally this pin is connected to the drain of the external (See Datasheet)", 11 EP (power) "Ground connection for internal circuits, the gate drivers and the negative input to the reverse current comparator. The Exposed Pad must be soldered to the PCB ground."

## LTC3809EDD-1#TRPBF
designator U?
No Rsense, Low Input Voltage, Synchronous DC/DC Controller with Output Tracking, 10-pin SON (DD-10), -40 to 85 degC, Pb-Free, Tape and Reel; Manufacturer: Linear Technology; PartNumber: LTC3809EDD-1#TRPBF; Number of Outputs: 1; DatasheetVersion: Rev. C; PackageVersion: Rev. C, 06/2010; PackageReference: DD-10; PackageDescription: 10-Pin Plastic DFN, Body 3 x 3 mm, Pitch 0.5 mm; Supplier 1: Digi-Key; Supplier Part Number 1: LTC3809EDD-1#TRPBF-ND; Packing: Tape and Reel; RoHS: TRUE; Mounting Technology: Surface Mount; Code_JEDEC: MO-229; ComponentLink1Description: Manufacturer URL; ComponentLink1URL: http://www.linear.com/; ComponentLink2Description: Datasheet; ComponentLink2URL: http://cds.linear.com/docs/en/datasheet/38091fc.pdf; ComponentLink3Description: Package Specification; ComponentLink3URL: http://cds.linear.com/docs/en/packaging/DFN_10_05-08-1699.pdf
footprint LT-DD-10_V (SON, 10-Leads, Body 3x3mm, Pitch 0.5mm, Thermal Pad 2.38x1.65mm)
pins: 1 MODE (in) "This pin performs two functions: 1) auxiliary winding feedback input, and 2) Burst Mode operation, pulse skipping or forced continuous mode select. To select Burst Mode operation at light loads, tie this pin to VIN. (See Datasheet)", 2 TRACK/SS (in) "Tracking Input for the Controller or Optional External Soft-Start Input. This pin allows the start-up of VOUT to “track” the external voltage at this pin using an external resistor divider. Tying this pin to VIN all(See Datasheet)", 3 VFB (in) "Feedback Pin. This pin receives the remotely sensed feedback voltage for the controller from an external resistor divider across the output.", 4 ITH "Current Threshold and Error Amplifier Compensation Point. Nominal operating range on this pin is from 0.7V to 2V. The voltage on this pin determines the threshold of the main current comparator.", 5 RUN (in) "Run Control Input. Forcing this pin below 1.1V shuts down the chip. Driving this pin to VIN or releasing this pin enables the chip to start-up with the internal soft-start.", 6 IPRG (in) "Three-State Pin to Select Maximum Peak Sense Voltage Threshold. This pin selects the maximum allowed voltage drop between the VIN and SW pins (i.e., the maximum allowed drop across the external P-channel MOSFET). Tie to VIN, (See Datasheet)", 7 BG (out) "Bottom (NMOS) Gate Drive Output. This pin drives the gate of the external N-channel MOSFET. This pin has an output swing from PGND to VIN.", 8 TG (out) "Top (PMOS) Gate Drive Output. This pin drives the gate of the external P-channel MOSFET. This pin has an output swing from PGND to VIN.", 9 VIN (power) "Chip Signal Power Supply. This pin powers the entire chip, the gate drivers and serves as the positive input to the differential current comparator.", 10 SW "Switch Node Connection to Inductor. This pin is also the negative input to the differential current comparator and an input to the reverse current comparator. Normally this pin is connected to the drain of the external (See Datasheet)", 11 EP (power) "Ground connection for internal circuits, the gate drivers and the negative input to the reverse current comparator. The Exposed Pad must be soldered to the PCB ground."

## LTC3809EMSE
designator U?
No Rsense, Low EMI, Synchronous DC/DC Controller, 10-pin SOP (MSE-10-EDP), -40 to 85 degC; Manufacturer: Linear Technology; PartNumber: LTC3809EMSE; Frequency Sync Range: 250kHz - 750kHz; Number of Outputs: 1; DatasheetVersion: Rev. C; PackageVersion: Rev. C, 08/2009; PackageReference: MSE-10; PackageDescription: 10-Pin Plastic MSOP, Exposed Die Pad, Body 3 x 3 mm, Pitch 0.5 mm; Supplier 1: Digi-Key; Supplier Part Number 1: LTC3809EMSE-ND; RoHS: FALSE; Mounting Technology: Surface Mount; ComponentLink1Description: Manufacturer URL; ComponentLink1URL: http://www.linear.com/; ComponentLink2Description: Datasheet; ComponentLink2URL: http://cds.linear.com/docs/en/datasheet/3809fc.pdf; ComponentLink3Description: Package Specification; ComponentLink3URL: http://cds.linear.com/docs/en/datasheet/3481fc.pdf
footprint LT-MSE-10-EDP-2060x1830TP_N (SOP, 10-Leads, Body 3.1x3.1mm, Pitch 0.5mm, Thermal Pad 2.17x1.94mm, IPC Medium Density)
footprint LT-MSE-10-EDP-2060x1830TP_L (SOP, 10-Leads, Body 3.1x3.1mm, Pitch 0.5mm, Thermal Pad 2.17x1.94mm, IPC High Density)
footprint LT-MSE-10-EDP-2060x1830TP_M (SOP, 10-Leads, Body 3.1x3.1mm, Pitch 0.5mm, Thermal Pad 2.17x1.94mm, IPC Low Density)
pins: 1 PLLLPF (in) "Frequency Set/PLL Lowpass Filter. When synchronizing to an external clock, this pin serves as the lowpass filter point for the phase-locked loop. Normally, a series RC is connected between this pin and ground. When not (See Datasheet)", 2 SYNC/MODE (in), 3 VFB (in) "Feedback Pin. This pin receives the remotely sensed feedback voltage for the controller from an external resistor divider across the output.", 4 ITH "Current Threshold and Error Amplifier Compensation Point. Nominal operating range on this pin is from 0.7V to 2V. The voltage on this pin determines the threshold of the main current comparator.", 5 RUN (in) "Run Control Input. Forcing this pin below 1.1V shuts down the chip. Driving this pin to VIN or releasing this pin enables the chip to start-up with the internal soft-start.", 6 IPRG (in) "Three-State Pin to Select Maximum Peak Sense Voltage Threshold. This pin selects the maximum allowed voltage drop between the VIN and SW pins (i.e., the maximum allowed drop across the external P-channel MOSFET). Tie to VIN, (See Datasheet)", 7 BG (out) "Bottom (NMOS) Gate Drive Output. This pin drives the gate of the external N-channel MOSFET. This pin has an output swing from PGND to VIN.", 8 TG (out) "Top (PMOS) Gate Drive Output. This pin drives the gate of the external P-channel MOSFET. This pin has an output swing from PGND to VIN.", 9 VIN (power) "Chip Signal Power Supply. This pin powers the entire chip, the gate drivers and serves as the positive input to the differential current comparator.", 10 SW "Switch Node Connection to Inductor. This pin is also the negative input to the differential current comparator and an input to the reverse current comparator. Normally this pin is connected to the drain of the external (See Datasheet)", 11 EP (power) "Exposed Pad. The Exposed Pad is ground and must be soldered to the PCB ground for electrical contact and optimum thermal performance."